# Altium footprint library HAB_Lib.PcbLib: 104 footprints (part 4 of 7)
Each footprint in its own frame and in the unit in brackets; x right, y up, seen from the top. Pads: shape width x height; smd on the part's side, far side on the other; paste and mask are expansions set on the pad; w line width, h text height; cw(c..) or ccw(c..) is an arc to the next point about the centre after c.
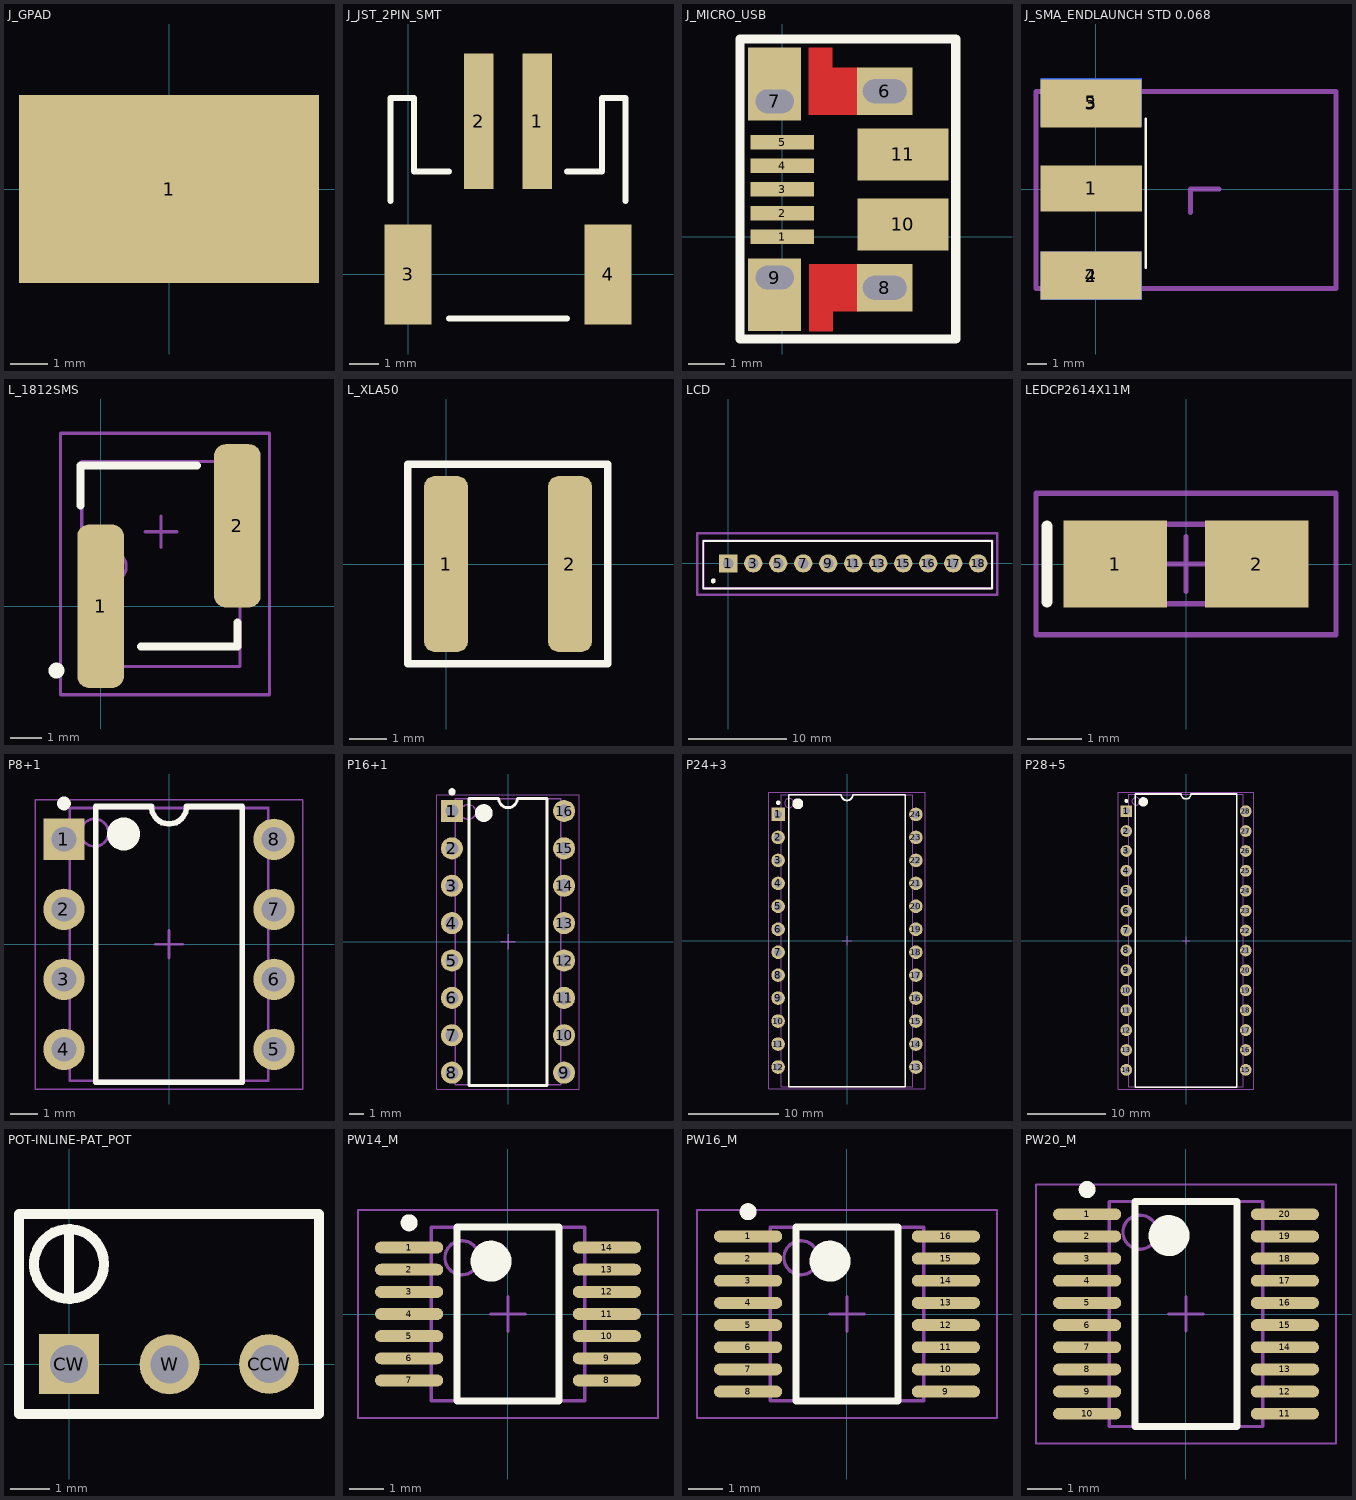
[diagram p3: the footprints below, top view; thin cyan lines are the x and y axes]

## J_GPAD [mm]
pads (1):
  rect 8x5 smd: 1(0,0)

## J_JST_2PIN_SMT [mm]
pads (4):
  rect 1x4.6 smd: 1(4.4,5.2) 2(2.4,5.2)
  rect 1.6x3.4 smd: 3(0,0) 4(6.8,0)
Top Overlay:
  lines w0.203: -0.6,2.5 -0.6,6 0.2,6 0.2,3.5 1.4,3.5 ; 1.4,-1.5 5.4,-1.5 ; 5.4,3.5 6.6,3.5 6.6,6 7.4,6 7.4,2.5
Mechanical 18:
  text "-" at 5.842,5.033 h1.97
  text "+" at 0.411,4.705 h1.97

## J_MICRO_USB [mm] "CONN USB MICRO B RECPT SMT R/A"
height 3.1
pads (11):
  rect 1.75x0.4 smd: 1(0,0) 2(0,0.65) 3(0,1.3) 4(0,1.95) 5(0,2.6)
  rect 1.524x1.3 hole 0.66 slot 1.2 at 0 deg: 6(2.825,4.005) 8(2.825,-1.405)
  rect 1.46x2 hole 0.65 slot 1.05 at 0 deg copper offset 0,0.475: 7(-0.205,3.725)
  rect 1.46x2 hole 0.65 slot 1.05 at 0 deg copper offset 0,-0.475: 9(-0.205,-1.125)
  rect 2.5x1.425 smd: 10(3.325,0.337) 11(3.325,2.262)
Top Layer:
  region: 2.064,-0.749 2.06,-0.754 0.741,-0.754 0.741,-2.594 0.744,-2.597 1.387,-2.597 1.387,-2.047 1.394,-2.047 2.065,-2.047
  region: 2.062,3.358 2.057,3.362 0.738,3.362 0.738,5.202 0.741,5.205 1.384,5.205 1.384,4.655 1.392,4.655 2.063,4.655
Top Overlay:
  lines w0.254: -1.163,-2.815 4.775,-2.815 4.775,5.44 -1.163,5.44 -1.163,-2.815
Top Solder:
  region: 2.06,-0.745 2.055,-0.749 0.736,-0.749 0.736,-2.589 0.739,-2.592 1.382,-2.592 1.382,-2.043 1.39,-2.042 2.061,-2.042
  region: 2.057,3.362 2.053,3.367 0.734,3.367 0.734,5.206 0.737,5.209 1.379,5.209 1.379,4.66 1.387,4.66 2.058,4.66
3D body "10103594.stp": height 2.85, standoff -0.75, extent -0.42,-2.688 5.613,5.352

## J_SMA_ENDLAUNCH STD 0.068 [mm] "SMA End-Launch Connector Std Length .068"
height 3.175
pads (5):
  rect 5.08x2.286 smd: 1(-0.229,0.025)
  rect 5.08x2.413 smd: 2(-0.23,-4.35) 3(-0.23,4.3)
  rect 5.08x2.413 smd far side: 4(-0.23,-4.36) 5(-0.23,4.36)
Top Overlay:
  lines w0.127: 2.5,-3.946 2.5,3.52
Mechanical 15:
  lines w0.254: 4.751,-0.007 6.191,-0.007 6.198,0 ; 4.768,-1.187 4.768,-0.003 ; -3,-5 12.065,-5 12.065,4.9 -3,4.9 -3,-5
3D body "SW3dPS-SMA_142-0701-851.STEP": height 3.96, standoff -3.96, extent -2.36,-4.74 11.47,4.78

## L_1812SMS [mil] "Fixed Inductors 1812SMS Midi Spring 68 nH 2 % 2.5 A"
height 165
pads (2):
  rrect50% 58x203 smd: 1(0,0) 2(170,100)
Top Overlay:
  circle w9.84: c-55,-80 r4.92
  lines w10: -25,125 -25,175 120,175 ; 50,-50 170,-50 170,-20
Mechanical 13:
  circle w3.94: c12.01,49.21 r19.68
  lines w3.94: -23.43,-75 -23.43,180 173.43,180 173.43,-75 -23.43,-75
Mechanical 15:
  lines w3.94: 55.31,92.52 94.69,92.52 ; 75,72.83 75,112.2 ; -50,-110 -50,215 210,215 210,-110 -50,-110
3D body: height 68.9, standoff 0, extent -23.43,-75 173.43,171.26

## L_XLA50 [mm]
pads (2):
  rrect50% 1.18x4.7 smd: 1(0,0) 2(3.31,0)
Top Overlay:
  lines w0.2: -1.016,-2.667 4.318,-2.667 4.318,2.667 -1.016,2.667 -1.016,-2.667

## LCD [mm] "Adafruit LCD"
height 13.208
pads (11):
  rect 1.85x1.85 hole 1.1: 1(0,0)
  round 1.85 hole 1.1: 3(2.54,0) 5(5.08,0) 7(7.62,0) 9(10.16,0) 11(12.7,0) 13(15.24,0) 15(17.78,0) 16(20.32,0) 17(22.86,0) 18(25.4,0)
Top Overlay:
  circle w0.25: c-1.524,-1.778 r0.125
  lines w0.2: -2.54,-2.54 26.797,-2.54 26.797,2.286 -2.54,2.286 -2.54,-2.54
Mechanical 13:
  lines w0.254: -2.54,-2.54 -2.54,2.286 26.797,2.286 26.797,-2.54 -2.54,-2.54
Mechanical 15:
  lines w0.254: -3.175,-3.175 -3.175,3.048 27.305,3.048 27.305,-3.175 -3.175,-3.175

## LEDCP2614X11M [mm] "LED 0805, 2-Leads, Body 2.6x1.4mm, IPC Low Density"
height 1.1
pads (2):
  rect 1.9x1.6 smd: 1(-1.3,0) 2(1.3,0)
Top Overlay:
  lines w0.2: -2.55,-0.7 -2.55,0.7
Mechanical 13:
  lines w0.1: -1.65,-0.725 1.65,-0.725 1.65,0.725 -1.65,0.725 -1.65,-0.725
Mechanical 15:
  lines w0.1: -0.5,0 0.5,0 ; 0,-0.5 0,0.5 ; -2.75,-1.3 2.75,-1.3 2.75,1.3 -2.75,1.3 -2.75,-1.3
3D body: height 1.1, standoff 0, extent -1.65,-0.725 1.65,0.725

## P8+1 [mm] "DIP, 8-Leads, Row Spacing 7.62mm, Pitch 2.54mm, Body 9.4x7mm"
height 4.58
pads (8):
  rect 1.5x1.5 hole 0.9: 1(-3.81,3.81)
  round 1.5 hole 0.9: 2(-3.81,1.27) 3(-3.81,-1.27) 4(-3.81,-3.81) 5(3.81,-3.81) 6(3.81,-1.27) 7(3.81,1.27) 8(3.81,3.81)
Top Overlay:
  circle w0.25: c-3.81,5.11 r0.125
  circle w0.6: c-1.65,4 r0.3
  lines w0.2: -2.65,-5 -2.65,5 -0.635,5 ccw(c0,5) 0.635,5 2.65,5 2.65,-5 -2.65,-5
Mechanical 13:
  circle w0.1: c-2.7,4.05 r0.5
  lines w0.1: -3.6,-4.95 -3.6,4.95 3.6,4.95 3.6,-4.95 -3.6,-4.95
Mechanical 15:
  lines w0.05: -4.85,-5.25 -4.85,5.25 4.85,5.25 4.85,-5.25 -4.85,-5.25
  lines w0.1: -0.5,0 0.5,0 ; 0,-0.5 0,0.5
3D body: height 4.58, standoff 0.38, extent -3.6,-4.95 3.6,4.95

## P16+1 [mm] "DIP, 16-Leads, Row Spacing 7.62mm, Pitch 2.54mm, Body 19.2x7mm"
height 4.58
pads (16):
  rect 1.5x1.5 hole 0.9: 1(-3.81,8.89)
  round 1.5 hole 0.9: 2(-3.81,6.35) 3(-3.81,3.81) 4(-3.81,1.27) 5(-3.81,-1.27) 6(-3.81,-3.81) 7(-3.81,-6.35) 8(-3.81,-8.89) 9(3.81,-8.89) 10(3.81,-6.35) 11(3.81,-3.81) 12(3.81,-1.27) 13(3.81,1.27) 14(3.81,3.81) 15(3.81,6.35) 16(3.81,8.89)
Top Overlay:
  circle w0.25: c-3.81,10.19 r0.125
  circle w0.6: c-1.65,8.75 r0.3
  lines w0.2: -2.65,-9.75 -2.65,9.75 -0.635,9.75 ccw(c0,9.75) 0.635,9.75 2.65,9.75 2.65,-9.75 -2.65,-9.75
Mechanical 13:
  circle w0.1: c-2.7,8.825 r0.5
  lines w0.1: -3.6,-9.725 -3.6,9.725 3.6,9.725 3.6,-9.725 -3.6,-9.725
Mechanical 15:
  lines w0.05: -4.85,-10 -4.85,10 4.85,10 4.85,-10 -4.85,-10
  lines w0.1: -0.5,0 0.5,0 ; 0,-0.5 0,0.5
3D body: height 4.58, standoff 0.38, extent -3.6,-9.725 3.6,9.725

## P24+3 [mm] "DIP, 24-Leads, Row Spacing 15.24mm, Pitch 2.54mm, Body 31.8x14mm"
height 5.08
pads (24):
  rect 1.5x1.5 hole 0.9: 1(-7.62,13.97)
  round 1.5 hole 0.9: 2(-7.62,11.43) 3(-7.62,8.89) 4(-7.62,6.35) 5(-7.62,3.81) 6(-7.62,1.27) 7(-7.62,-1.27) 8(-7.62,-3.81) 9(-7.62,-6.35) 10(-7.62,-8.89) 11(-7.62,-11.43) 12(-7.62,-13.97) 13(7.62,-13.97) 14(7.62,-11.43) 15(7.62,-8.89) 16(7.62,-6.35) 17(7.62,-3.81) 18(7.62,-1.27) 19(7.62,1.27) 20(7.62,3.81) 21(7.62,6.35) 22(7.62,8.89) 23(7.62,11.43) 24(7.62,13.97)
Top Overlay:
  circle w0.6: c-5.45,15.15 r0.3
  circle w0.25: c-7.62,15.27 r0.125
  lines w0.2: -6.45,-16.15 6.45,-16.15 6.45,16.15 0.635,16.15 cw(c0,16.15) -0.635,16.15 -6.45,16.15 -6.45,-16.15
Mechanical 13:
  circle w0.1: c-6.4,15.225 r0.5
  lines w0.1: -7.3,-16.125 7.3,-16.125 7.3,16.125 -7.3,16.125 -7.3,-16.125
Mechanical 15:
  lines w0.05: -8.65,-16.4 8.65,-16.4 8.65,16.4 -8.65,16.4 -8.65,-16.4
  lines w0.1: -0.5,0 0.5,0 ; 0,-0.5 0,0.5
3D body: height 5.08, standoff 0.39, extent -7.3,-16.125 7.3,16.125

## P28+5 [mm] "DIP, 28-Leads, Row Spacing 15.24mm, Pitch 2.54mm, Body 36.8x14mm"
height 5.08
pads (28):
  rect 1.5x1.5 hole 0.9: 1(-7.62,16.51)
  round 1.5 hole 0.9: 2(-7.62,13.97) 3(-7.62,11.43) 4(-7.62,8.89) 5(-7.62,6.35) 6(-7.62,3.81) 7(-7.62,1.27) 8(-7.62,-1.27) 9(-7.62,-3.81) 10(-7.62,-6.35) 11(-7.62,-8.89) 12(-7.62,-11.43) 13(-7.62,-13.97) 14(-7.62,-16.51) 15(7.62,-16.51) 16(7.62,-13.97) 17(7.62,-11.43) 18(7.62,-8.89) 19(7.62,-6.35) 20(7.62,-3.81) 21(7.62,-1.27) 22(7.62,1.27) 23(7.62,3.81) 24(7.62,6.35) 25(7.62,8.89) 26(7.62,11.43) 27(7.62,13.97) 28(7.62,16.51)
Top Overlay:
  circle w0.6: c-5.45,17.7 r0.3
  circle w0.25: c-7.62,17.81 r0.125
  lines w0.2: -6.45,-18.7 6.45,-18.7 6.45,18.7 0.635,18.7 cw(c0,18.7) -0.635,18.7 -6.45,18.7 -6.45,-18.7
Mechanical 13:
  circle w0.1: c-6.4,17.775 r0.5
  lines w0.1: -7.3,-18.675 7.3,-18.675 7.3,18.675 -7.3,18.675 -7.3,-18.675
Mechanical 15:
  lines w0.05: -8.65,-18.95 8.65,-18.95 8.65,18.95 -8.65,18.95 -8.65,-18.95
  lines w0.1: -0.5,0 0.5,0 ; 0,-0.5 0,0.5
3D body: height 5.08, standoff 0.39, extent -7.3,-18.675 7.3,18.675

## POT-INLINE-PAT_POT [mil]
pads (3):
  round 60 hole 38: CCW(200,0) W(100.6,-0.4)
  rect 60x60 hole 38: CW(0,0)
Top Overlay:
  circle w10: c0,100 r35
  lines w10: 0,65 0,135 ; -50,-50 250,-50 250,150 -50,150 -50,-50

## PW14_M [mm] "TSOP, 14-Leads, Body 5x4.4mm, Pitch 0.65mm, IPC Low Density"
height 1.2
pads (14):
  oval 2x0.35 smd: 1(-2.9,1.95) 2(-2.9,1.3) 3(-2.9,0.65) 4(-2.9,0) 5(-2.9,-0.65) 6(-2.9,-1.3) 7(-2.9,-1.95) 8(2.9,-1.95) 9(2.9,-1.3) 10(2.9,-0.65) 11(2.9,0) 12(2.9,0.65) 13(2.9,1.3) 14(2.9,1.95)
Top Overlay:
  circle w0.25: c-2.9,2.675 r0.125
  circle w0.6: c-0.5,1.55 r0.3
  lines w0.2: -1.5,-2.55 -1.5,2.55 1.5,2.55 1.5,-2.55 -1.5,-2.55
Mechanical 13:
  circle w0.1: c-1.35,1.65 r0.5
  lines w0.1: -2.25,-2.55 -2.25,2.55 2.25,2.55 2.25,-2.55 -2.25,-2.55
Mechanical 15:
  lines w0.05: -4.4,-3.05 -4.4,3.05 4.4,3.05 4.4,-3.05 -4.4,-3.05
  lines w0.1: -0.5,0 0.5,0 ; 0,-0.5 0,0.5
3D body: height 1.2, standoff 0, extent -2.25,-2.55 2.25,2.55

## PW16_M [mm] "TSOP, 16-Leads, Body 5x4.4mm, Pitch 0.65mm, IPC Low Density"
height 1.2
pads (16):
  oval 2x0.35 smd: 1(-2.9,2.275) 2(-2.9,1.625) 3(-2.9,0.975) 4(-2.9,0.325) 5(-2.9,-0.325) 6(-2.9,-0.975) 7(-2.9,-1.625) 8(-2.9,-2.275) 9(2.9,-2.275) 10(2.9,-1.625) 11(2.9,-0.975) 12(2.9,-0.325) 13(2.9,0.325) 14(2.9,0.975) 15(2.9,1.625) 16(2.9,2.275)
Top Overlay:
  circle w0.6: c-0.5,1.55 r0.3
  circle w0.25: c-2.9,3 r0.125
  lines w0.2: -1.5,-2.55 1.5,-2.55 1.5,2.55 -1.5,2.55 -1.5,-2.55
Mechanical 13:
  circle w0.1: c-1.35,1.65 r0.5
  lines w0.1: -2.25,-2.55 2.25,-2.55 2.25,2.55 -2.25,2.55 -2.25,-2.55
Mechanical 15:
  lines w0.05: -4.4,-3.05 4.4,-3.05 4.4,3.05 -4.4,3.05 -4.4,-3.05
  lines w0.1: -0.5,0 0.5,0 ; 0,-0.5 0,0.5
3D body: height 1.2, standoff 0.05, extent -2.25,-2.55 2.25,2.55

## PW20_M [mm] "TSOP, 20-Leads, Body 6.5x4.4mm, Pitch 0.65mm, IPC Low Density"
height 1.2
pads (20):
  oval 2x0.35 smd: 1(-2.9,2.925) 2(-2.9,2.275) 3(-2.9,1.625) 4(-2.9,0.975) 5(-2.9,0.325) 6(-2.9,-0.325) 7(-2.9,-0.975) 8(-2.9,-1.625) 9(-2.9,-2.275) 10(-2.9,-2.925) 11(2.9,-2.925) 12(2.9,-2.275) 13(2.9,-1.625) 14(2.9,-0.975) 15(2.9,-0.325) 16(2.9,0.325) 17(2.9,0.975) 18(2.9,1.625) 19(2.9,2.275) 20(2.9,2.925)
Top Overlay:
  circle w0.6: c-0.5,2.3 r0.3
  circle w0.25: c-2.9,3.65 r0.125
  lines w0.2: -1.5,-3.3 1.5,-3.3 1.5,3.3 -1.5,3.3 -1.5,-3.3
Mechanical 13:
  circle w0.1: c-1.35,2.4 r0.5
  lines w0.1: -2.25,-3.3 2.25,-3.3 2.25,3.3 -2.25,3.3 -2.25,-3.3
Mechanical 15:
  lines w0.05: -4.4,-3.8 4.4,-3.8 4.4,3.8 -4.4,3.8 -4.4,-3.8
  lines w0.1: -0.5,0 0.5,0 ; 0,-0.5 0,0.5
3D body: height 1.2, standoff 0.05, extent -2.25,-3.3 2.25,3.3